# Altium footprint library STM32F103-V1.0.PcbLib: 29 footprints (part 2 of 2)
Each footprint in its own frame and in the unit in brackets; x right, y up, seen from the top. Pads: shape width x height; smd on the part's side, far side on the other; paste and mask are expansions set on the pad; w line width, h text height; cw(c..) or ccw(c..) is an arc to the next point about the centre after c.
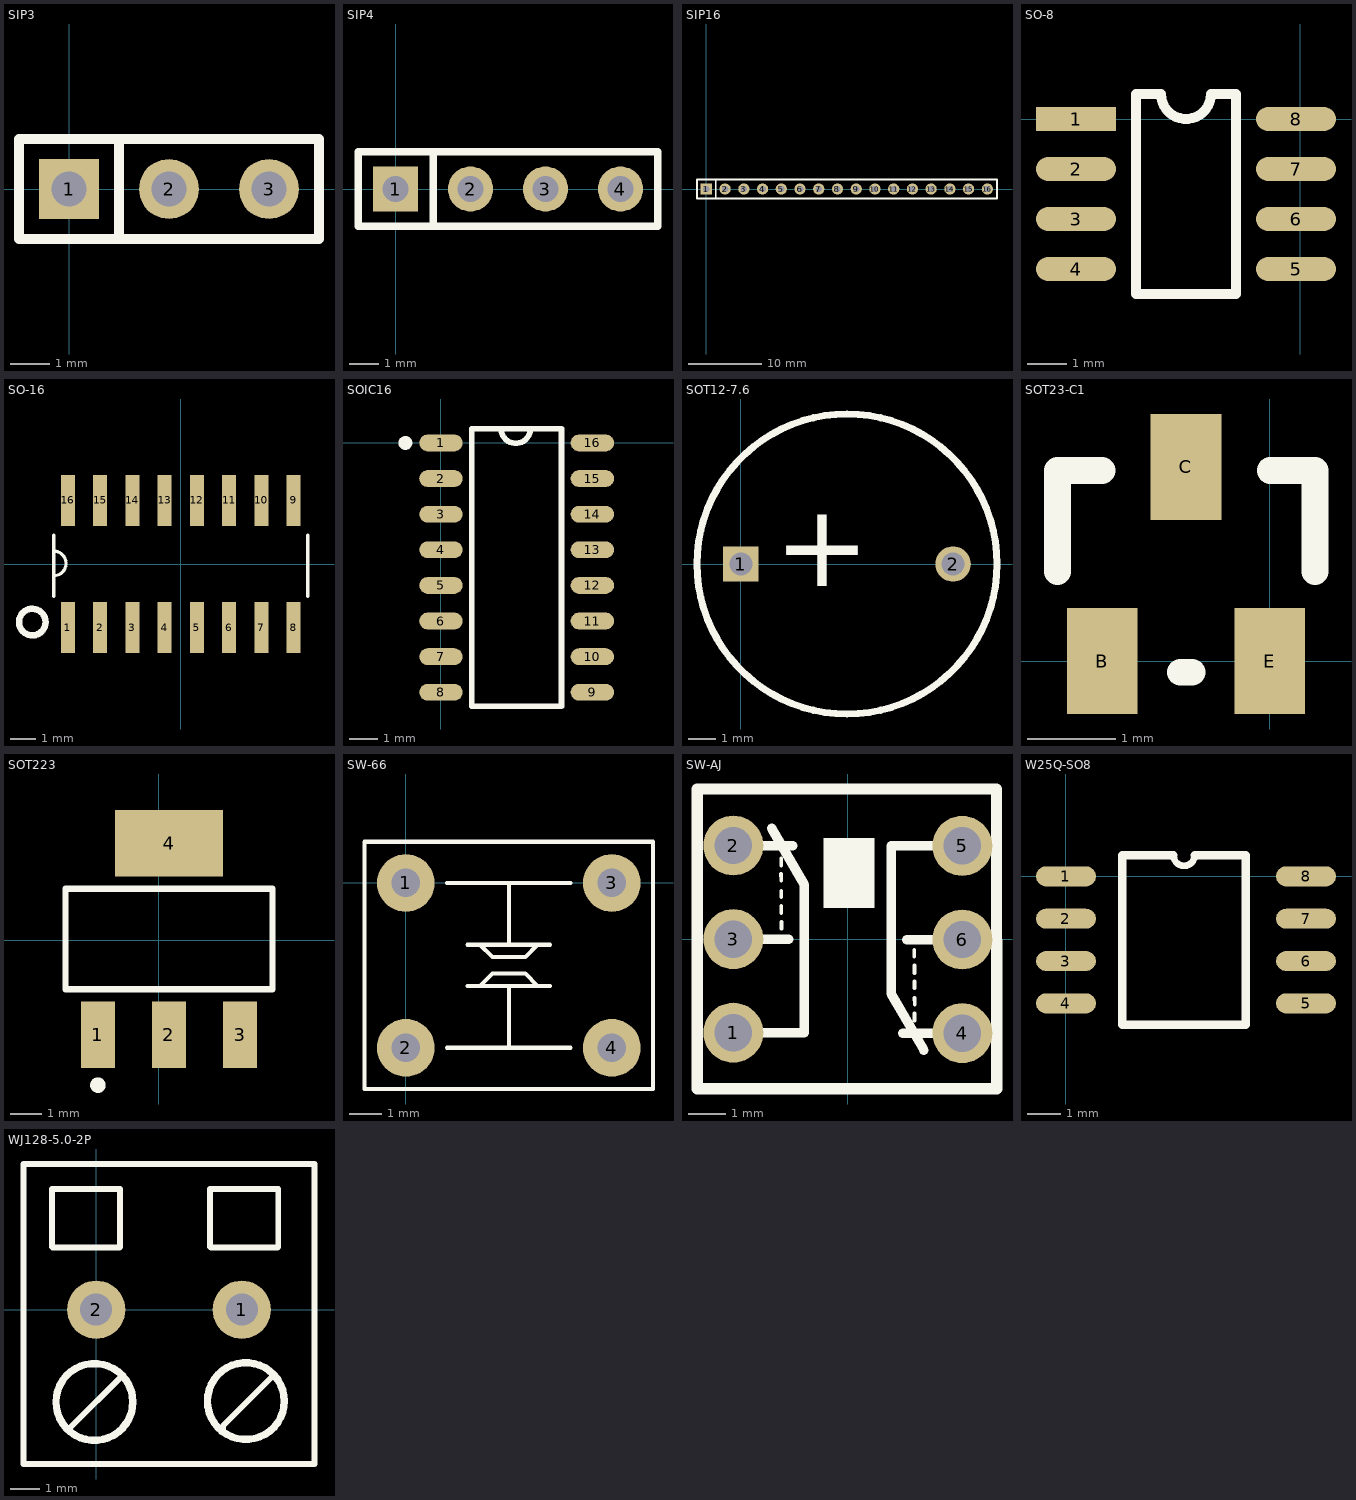
[diagram p1: the footprints below, top view; thin cyan lines are the x and y axes]

## SIP3 [mil]
pads (3):
  rect 60x60 hole 35: 1(0,0)
  round 60 hole 35: 2(100,0) 3(200,0)
Top Overlay:
  lines w10: 50,-50 50,50 ; -50,-50 -50,50 250,50 250,-50 -50,-50

## SIP4 [mil]
pads (4):
  rect 60x60 hole 35: 1(0,0)
  round 60 hole 35: 2(100,0) 3(200,0) 4(300,0)
Top Overlay:
  lines w10: 50,-50 50,50 ; -50,-50 350,-50 350,50 -50,50 -50,-50

## SIP16 [mil]
pads (16):
  rect 60x60 hole 34.65: 1(0,0)
  round 60 hole 34.65: 2(100,0) 3(200,0) 4(300,0) 5(400,0) 6(500,0) 7(600,0) 8(700,0) 9(800,0) 10(900,0) 11(1000,0) 12(1100,0) 13(1200,0) 14(1300,0) 15(1400,0) 16(1500,0)
Top Overlay:
  lines w10: 50,-50 50,50 ; -50,-50 1551.57,-50 1551.57,50 -50,50 -50,-50

## SO-8 [mil]
pads (8):
  rect 80x24 smd: 1(-224.41,0)
  oval 80x24 smd: 2(-224.41,-50) 3(-224.41,-100) 4(-224.41,-150) 5(-4.41,-150) 6(-4.41,-100) 7(-4.41,-50) 8(-4.41,0)
Top Overlay:
  lines w10: -164.41,-175 -164.41,25 -139.41,25 ccw(c-114.41,25) -89.41,25 -64.41,25 -64.41,-175 -164.41,-175

## SO-16 [mm]
pads (16):
  rect 0.55x2 smd: 1(-4.445,-2.5) 2(-3.175,-2.5) 3(-1.905,-2.5) 4(-0.635,-2.5) 5(0.635,-2.5) 6(1.905,-2.5) 7(3.175,-2.5) 8(4.445,-2.5) 9(4.445,2.5) 10(3.175,2.5) 11(1.905,2.5) 12(0.635,2.5) 13(-0.635,2.5) 14(-1.905,2.5) 15(-3.175,2.5) 16(-4.445,2.5)
Top Overlay:
  circle w0.254: c-5.842,-2.286 r0.524
  lines w0.127: -5,-1.27 -5,1.143 ; -5,-0.463 ccw(c-5,0.022) -5,0.508 ; 5,-1.27 5,1.143
3D body "User Library-so16.STEP": height 1.7, standoff 0, extent -5.127,-2.873 5.073,3.127

## SOIC16 [mm] "SOIC16-39MM"
pads (16):
  oval 1.55x0.6 smd: 1(0,0) 2(0,-1.27) 3(0,-2.54) 4(0,-3.81) 5(0,-5.08) 6(0,-6.35) 7(0,-7.62) 8(0,-8.89) 9(5.4,-8.89) 10(5.4,-7.62) 11(5.4,-6.35) 12(5.4,-5.08) 13(5.4,-3.81) 14(5.4,-2.54) 15(5.4,-1.27) 16(5.4,0)
Top Overlay:
  circle w0.25: c-1.268,0 r0.125
  lines w0.2: 2.143,0.508 ccw(c2.667,0.508) 3.191,0.508 ; 1.1,-9.395 1.1,0.505 4.3,0.505 4.3,-9.395 1.1,-9.395

## SOT12-7.6 [mil] "有源蜂鸣器外径12间距7.6mm"
pads (2):
  rect 50x50 hole 32: 1(0,0)
  round 50 hole 32: 2(299.21,0)
Top Overlay:
  circle w10: c149.61,0 r211.58
  text "+" at 47.24,-31.5 h118.11

## SOT23-C1 [mm]
pads (3):
  rect 0.8x1.2 smd: B(-1.9,0) C(-0.95,2.2) E(0,0)
Top Overlay:
  lines w0.305: -2.408,1.016 -2.408,2.159 -1.9,2.159 ; -1.011,-0.127 -0.884,-0.127 ; 0.005,2.159 0.513,2.159 0.513,1.016

## SOT223 [mm] "AMS1117-3.3V"
pads (4):
  rect 1.1x2.15 smd: 1(-1.973,-3.064) 2(0.327,-3.064) 3(2.627,-3.064)
  rect 3.5x2.15 smd: 4(0.327,3.136)
Top Overlay:
  circle w0.25: c-1.973,-4.689 r0.125
  lines w0.2: -3.023,-1.589 3.677,-1.589 3.677,1.661 -3.023,1.661 -3.023,-1.589

## SW-66 [mil] "6×6轻触开关"
pads (4):
  round 70 hole 34.65: 1(0,0) 2(0,-200) 3(250,0) 4(250,-200)
Top Overlay:
  lines w5: 50,-200 200,-200 ; 50,0 200,0 ; 75,-125 175,-125 ; 75,-75 175,-75 ; 90,-125 105,-110 145,-110 160,-125 ; 90,-75 105,-90 145,-90 160,-75 ; 125,-200 125,-125 ; 125,-75 125,0 ; -50,-250 300,-250 300,50 -50,50 -50,-250

## SW-AJ [mm]
pads (6):
  round 1.6 hole 1: 1(-3.057,-2.494) 2(-3.057,2.505) 3(-3.057,0.006) 4(3.057,-2.505) 5(3.057,2.494) 6(3.057,-0.005)
Top Overlay:
  rectangle: -0.656,0.834 0.708,2.712
  lines w0.1: -1.784,1.749 -1.779,1.562 ; -1.779,0.694 -1.779,0.897 ; -1.779,1.121 -1.779,1.298 ; -1.779,1.972 -1.779,2.165 ; -1.774,0.284 -1.774,0.466 ; 1.774,-0.466 1.774,-0.284 ; 1.779,-2.165 1.779,-1.972 ; 1.779,-1.562 1.784,-1.749 ; 1.779,-1.298 1.779,-1.121 ; 1.779,-0.897 1.779,-0.694
  lines w0.254: -4.022,-3.236 -4.022,-2.728 ; -3.23,-3.986 -2.722,-3.986 ; -3.057,-2.494 -1.161,-2.495 -1.161,-2.059 -1.161,1.46 -2.033,2.961 ; -3.057,0.006 -1.573,0.006 ; -3.057,2.505 -1.465,2.505 ; 1.465,-2.505 3.057,-2.505 ; 1.573,-0.006 3.057,-0.006 ; 2.033,-2.961 1.161,-1.46 1.161,2.059 1.161,2.495 3.057,2.494 ; 2.671,-3.997 3.179,-3.997
  lines w0.305: -4.022,-3.986 3.978,-3.986 3.97,4.006 -4.022,4.014 -4.022,-3.986

## W25Q-SO8 [mm]
pads (8):
  oval 1.8x0.6 smd: 1(0,0) 2(0,-1.27) 3(0,-2.54) 4(0,-3.81) 5(7.2,-3.81) 6(7.2,-2.54) 7(7.2,-1.27) 8(7.2,0)
Top Overlay:
  lines w0.2: 3.225,0.635 ccw(c3.542,0.635) 3.86,0.635
  lines w0.254: 3.225,0.635 1.687,0.635 1.687,-4.445 5.397,-4.445 5.397,0.635 3.86,0.635
3D body "SOIC8_Wide.STEP": height 1.75, standoff -0.01, extent -0.452,-4.63 7.65,0.83

## WJ128-5.0-2P [mm]
pads (2):
  round 2 hole 1.1: 1(5,0) 2(0,0)
Top Overlay:
  circle w0.254: c-0.06,-3.17 r1.319
  circle w0.254: c5.14,-3.14 r1.319
  lines w0.2: -2.5,-5.3 0,-5.3 5,-5.3 7.5,-5.3 7.5,0.19 ; -2.5,-5.25 -2.5,0 -2.5,5 7.5,5 7.5,0 ; -0.89,-4.2 -0.89,-4.05 0.91,-2.25 ; 0,5 5,5 ; 4.36,-4.23 4.36,-3.98 6.03,-2.31 ; -1.52,2.16 -1.49,2.13 0.8,2.13 0.82,2.15 0.82,4.14 -1.52,4.14 -1.52,2.16 ; 3.91,2.16 3.91,4.14 6.25,4.14 6.25,2.15 6.23,2.13 3.94,2.13 3.91,2.16